# Altium footprint library chip-arduino.PcbLib: 12 footprints
Each footprint in its own frame and in the unit in brackets; x right, y up, seen from the top. Pads: shape width x height; smd on the part's side, far side on the other; paste and mask are expansions set on the pad; w line width, h text height; cw(c..) or ccw(c..) is an arc to the next point about the centre after c.
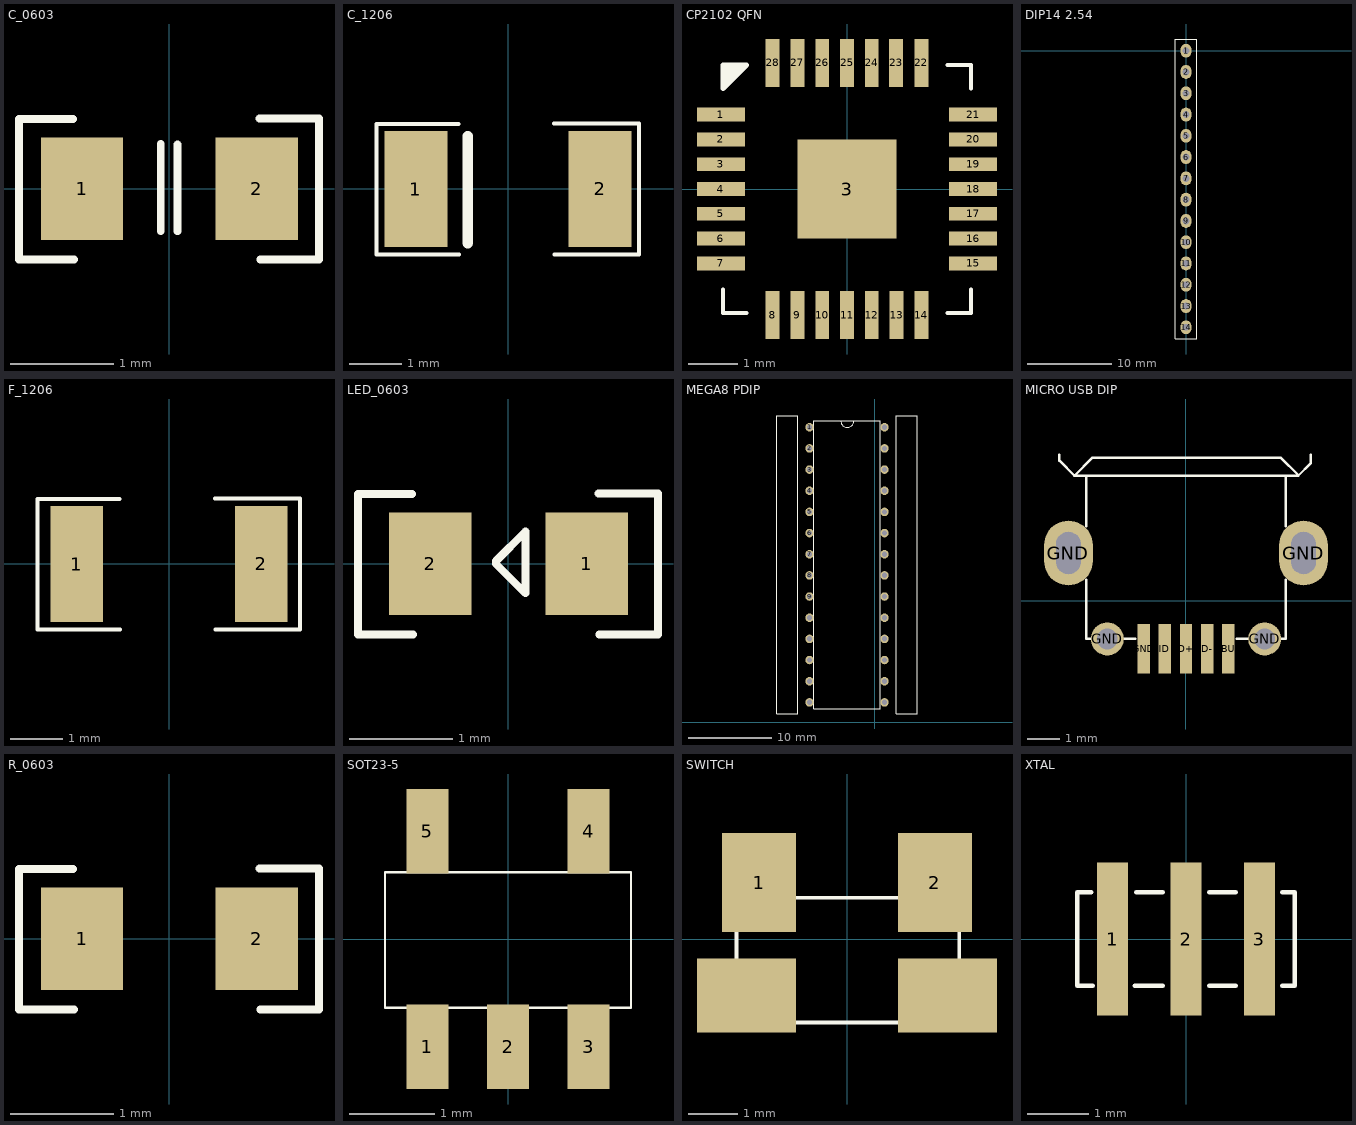
[diagram p0: the footprints below, top view; thin cyan lines are the x and y axes]

## C_0603 [mm]
height 7.8
pads (2):
  rect 0.8x1 smd: 1(-0.85,0) 2(0.85,0)
Top Overlay:
  lines w0.076: -0.937,0.679 -1.464,0.679 -1.464,-0.688 -0.927,-0.688 ; -0.084,-0.41 -0.084,0.436 ; 0.078,-0.414 0.078,0.432 ; 0.876,0.685 1.455,0.685 1.455,-0.689 0.883,-0.689

## C_1206 [mm]
height 7.8
pads (2):
  rect 1.2x2.2 smd: 1(-1.751,-0.002) 2(1.75,0)
Top Overlay:
  lines w0.076: -0.937,1.233 -2.499,1.233 -2.499,-1.246 -0.927,-1.246 ; 0.876,1.248 2.49,1.248 2.49,-1.248 0.883,-1.248
  lines w0.203: -0.764,-1.026 -0.764,1.003

## CP2102 QFN [mil] "QFN, 28-Leads, Body 5.0x5.0mm (max), Pitch 0.50mm, IPC Medium Density"
height 39.37
pads (29):
  rect 38x11 smd: 1(-100,59.06) 2(-100,39.37) 3(-100,19.68) 4(-100,0) 5(-100,-19.68) 6(-100,-39.37) 7(-100,-59.06) 15(100,-59.06) 16(100,-39.37) 17(100,-19.68) 18(100,0) 19(100,19.68) 20(100,39.37) 21(100,59.06)
  rect 78.74x78.74 smd: 3(0,0)
  rect 11x38 smd: 8(-59.06,-100) 9(-39.37,-100) 10(-19.68,-100) 11(0,-100) 12(19.68,-100) 13(39.37,-100) 14(59.06,-100) 22(59.06,100) 23(39,100) 24(19.68,100) 25(0,100) 26(-19.68,100) 27(-39.37,100) 28(-59.06,100)
Top Overlay:
  rectangle: -98.42,89.61 -88.53,98.42
  rectangle: -91,92.15 -86,98.43
  lines w3: -98.43,-79.72 -98.43,-98.43 -79.72,-98.43 ; 79.72,-98.43 98.43,-98.43 98.43,-79.72 ; 79.72,98.43 98.43,98.43 98.43,79.72
  lines w3.94: -98.43,86 -86,98.43 -86,92.15 -89.15,89 -95.43,89 -95.43,82.72 ; -98.43,79.72 -98.43,98.43 -79.72,98.43 -98.43,79.72

## DIP14 2.54 [mil]
pads (14):
  oval 50x65 hole 32: 1(0,0) 2(0,-100) 3(0,-200) 4(0,-300) 5(0,-400) 6(0,-500) 7(0,-600) 8(0,-700) 9(0,-800) 10(0,-900) 11(0,-1000) 12(0,-1100) 13(0,-1200) 14(0,-1300)
Top Overlay:
  lines w3: -50.06,-1355.01 49.94,-1355.01 49.94,54.99 -50.06,54.99 -50.06,-1355.01

## F_1206 [mm]
height 7.8
pads (2):
  rect 1x2.2 smd: 1(-1.751,-0.002) 2(1.75,0)
Top Overlay:
  lines w0.076: -0.937,1.233 -2.499,1.233 -2.499,-1.246 -0.927,-1.246 ; 0.876,1.248 2.49,1.248 2.49,-1.248 0.883,-1.248

## LED_0603 [mm]
height 7.8
pads (2):
  rect 0.8x1 smd: 1(0.762,0) 2(-0.762,0)
Top Overlay:
  lines w0.076: -0.937,0.679 -1.464,0.679 -1.464,-0.688 -0.927,-0.688 ; -0.123,0.002 0.164,-0.285 0.164,0.313 -0.121,0.028 -0.121,0.002 ; 0.876,0.685 1.455,0.685 1.455,-0.689 0.883,-0.689

## MEGA8 PDIP [mil]
height 307.09
pads (28):
  round 40 hole 25: 1(-309.33,1395) 2(-309.33,1295) 3(-309.33,1195) 4(-309.33,1095) 5(-309.33,995) 6(-309.33,895) 7(-309.33,795) 8(-309.33,695) 9(-309.33,595) 10(-309.33,495) 11(-309.33,395) 12(-309.33,295) 13(-309.33,195) 14(-309.33,95) 15(45,95) 16(45,195) 17(45,295) 18(45,395) 19(45,495) 20(45,595) 21(45,695) 22(45,795) 23(45,895) 24(45,995) 25(45,1095) 26(45,1195) 27(45,1295) 28(45,1395)
Top Overlay:
  lines w3: -162.17,1426.1 ccw(c-130.66,1426.1) -99.16,1426.1 ; -464.33,40 -464.33,1450 -364.33,1450 -364.33,40 -464.33,40 ; -289.65,63.9 25.31,63.9 25.31,1426.1 -289.65,1426.1 -289.65,63.9 ; 100,40 200,40 200,1450 100,1450 100,40

## MICRO USB DIP [mm]
pads (9):
  rect 0.381x1.524 smd: D+(0,-1.475) D-(0.65,-1.475) GND(-1.3,-1.475) ID(-0.65,-1.475) VBUS(1.3,-1.475)
  oval 1.5x2 hole 0.762 slot 1.3 at 90.5 deg: GND(-3.625,1.475) GND(3.625,1.475)
  round 1.016 hole 0.635: GND(-2.425,-1.175) GND(2.425,-1.175)
Top Overlay:
  lines w0.076: -3.906,4.509 -3.906,4.324 -3.44,3.858 ; -3.074,0.652 -3.074,-1.175 -1.569,-1.175 ; -3.074,2.298 -3.074,3.825 ; 1.568,-1.175 3.076,-1.175 3.076,0.652 ; 3.076,2.298 3.076,3.825 ; 3.841,4.509 3.841,4.239 3.46,3.858 ; -3.44,3.858 -2.882,4.415 2.919,4.415 3.46,3.874 3.46,3.858 ; -3.44,3.858 3.46,3.858

## R_0603 [mm]
height 7.8
pads (2):
  rect 0.8x1 smd: 1(-0.85,0) 2(0.85,0)
Top Overlay:
  lines w0.076: -0.937,0.679 -1.464,0.679 -1.464,-0.688 -0.927,-0.688 ; 0.876,0.685 1.455,0.685 1.455,-0.689 0.883,-0.689

## SOT23-5 [mm]
height 7.8
pads (5):
  rect 0.5x1 smd: 1(-0.95,-1.27) 2(0,-1.27) 3(0.95,-1.27) 4(0.95,1.27) 5(-0.95,1.27)
Top Overlay:
  lines w0.025: -1.45,-0.812 1.45,-0.812 1.45,0.788 -1.45,0.788 -1.45,-0.812

## SWITCH [mm]
pads (4):
  rect 1.5x2 smd: 1(-1.778,1.143) 2(1.778,1.143)
  rect 2x1.5 smd: ""(-2.032,-1.14) ""(2.032,-1.14)
Top Overlay:
  lines w0.076: -2.232,-1.688 -2.232,0.836 2.268,0.836 2.268,-1.688 -2.232,-1.688

## XTAL [mm]
height 7.8
pads (3):
  rect 0.5x2.5 smd: 1(-1.2,0) 2(0,0) 3(1.2,0)
Top Overlay:
  lines w0.076: -1.549,0.762 -1.778,0.762 -1.778,-0.762 -1.524,-0.762 ; -0.838,-0.762 -0.381,-0.762 ; -0.813,0.762 -0.381,0.762 ; 0.381,-0.762 0.813,-0.762 ; 0.381,0.762 0.813,0.762 ; 1.575,-0.762 1.778,-0.762 1.778,0.762 1.575,0.762